# Altium schematic symbol library DRV8220DSGR.SchLib: 1 symbol
Pins are listed as number, name and electrical type; pins without a type are passive.

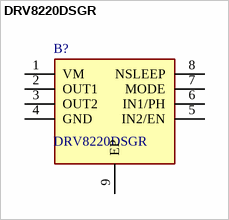
[diagram p0: symbol DRV8220DSGR]

## DRV8220DSGR
designator B?
Manufacturer_Name: Texas Instruments; Geometry.Height: 0.8mm; Mouser Part Number: 595-DRV8220DSGR; Mouser Price/Stock: https://www.mouser.co.uk/ProductDetail/Texas-Instruments/DRV8220DSGR?qs=A6eO%252BMLsxmR1BpX9iMystg%3D%3D; Manufacturer_Part_Number: DRV8220DSGR; Description: DRV8220DSGR; Datasheet Link: https://www.ti.com/lit/gpn/drv8220
footprint SON50P200X200X80-9N
pins: 1 VM, 2 OUT1, 3 OUT2, 4 GND, 5 IN2/EN, 6 IN1/PH, 7 MODE, 8 NSLEEP, 9 EP